# EAGLE library part NHD-0216K3Z-GBW-V3 (library NHD-0216K3Z-FL-GBW-V3)
NHD-0216K3Z-GBW-V3 Serial Liquid Crystal Display Module 2 Lines x 16 Characters 5 V input
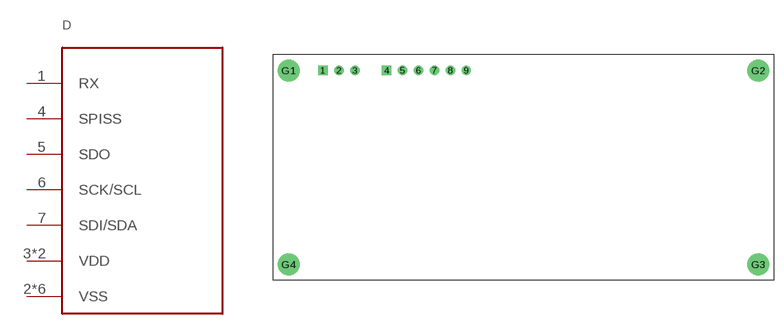
[diagram p0: symbol with the pads of NHD-0216K3Z-FL-GBW-V3; footprint NHD-0216K3Z-FL-GBW-V3]

Designator prefix D

## NHD-0216K3Z-GBW-V3  [NHD-0216K3Z-FL-GBW-V3]
1  RX
2  VSS
3  VDD
4  SPISS
5  SDO
6  SCK/SCL
7  SDI/SDA
8  VSS
9  VDD
G1  VSS
G2  VSS
G3  VSS
G4  VSS

## Footprint NHD-0216K3Z-FL-GBW-V3 (pad centres in mm)
Package for LCD
drill 1 square: 1 -32,15.5; 4 -21.84,15.5
drill 1: 2 -29.46,15.5; 3 -26.92,15.5; 5 -19.3,15.5; 6 -16.76,15.5; 7 -14.22,15.5; 8 -11.68,15.5; 9 -9.14,15.5
drill 2.5: G1 -37.5,15.5; G2 37.5,15.5; G3 37.5,-15.5; G4 -37.5,-15.5